# EAGLE library part M20 (library Connectors)
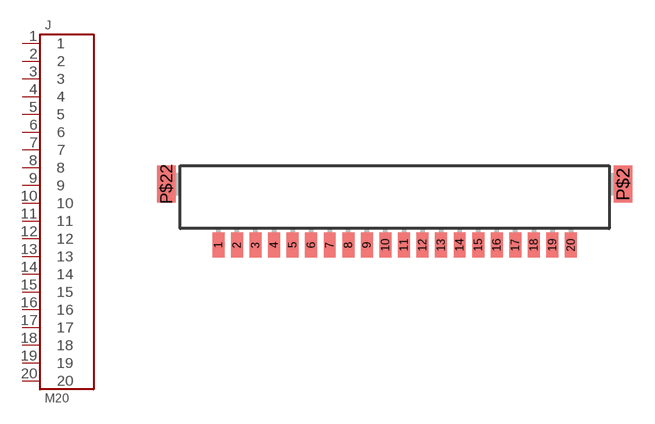
[diagram p14: symbol with the pads of FI-SE20P-HFE; footprint FI-SE20P-HFE]

Designator prefix J

## M20-FI-SE20P-HFE  [FI-SE20P-HFE]
1  1
2  2
3  3
4  4
5  5
6  6
7  7
8  8
9  9
10  10
11  11
12  12
13  13
14  14
15  15
16  16
17  17
18  18
19  19
20  20

## Footprint FI-SE20P-HFE (pad centres in mm)
smd 0.8 x 1.7: 1 -11.875,-5.35; 2 -10.625,-5.35; 3 -9.375,-5.35; 4 -8.125,-5.35; 5 -6.875,-5.35; 6 -5.625,-5.35; 7 -4.375,-5.35; 8 -3.125,-5.35; 9 -1.875,-5.35; 10 -0.625,-5.35; 11 0.625,-5.35; 12 1.875,-5.35; 13 3.125,-5.35; 14 4.375,-5.35; 15 5.625,-5.35; 16 6.875,-5.35; 17 8.125,-5.35; 18 9.375,-5.35; 19 10.625,-5.35; 20 11.875,-5.35
smd 1.25 x 2.5: P$2 15.375,-1.25; P$22 -15.375,-1.25